# EAGLE library part CS4272 (library balmer)
24-Bit, 192 kHz Stereo Audio CODEC
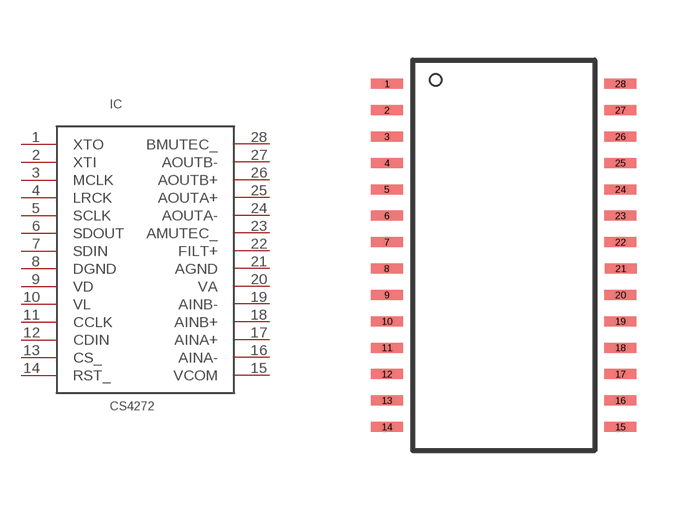
[diagram p21: symbol with the pads of TSSOP28; footprint TSSOP28]

Designator prefix IC

## CS4272  [TSSOP28]
1  XTO
2  XTI
3  MCLK
4  LRCK
5  SCLK
6  SDOUT
7  SDIN
8  DGND
9  VD
10  VL
11  CCLK
12  CDIN
13  CS_
14  RST_
15  VCOM
16  AINA-
17  AINA+
18  AINB+
19  AINB-
20  VA
21  AGND
22  FILT+
23  AMUTEC_
24  AOUTA-
25  AOUTA+
26  AOUTB+
27  AOUTB-
28  BMUTEC_

## Footprint TSSOP28 (pad centres in mm)
smd 0.8 x 0.25: 1 -2.921,4.623; 2 -2.921,3.962; 3 -2.921,3.302; 4 -2.921,2.642; 5 -2.921,1.981; 6 -2.921,1.321; 7 -2.921,0.66; 8 -2.927,0; 9 -2.921,-0.66; 10 -2.921,-1.321; 11 -2.921,-1.981; 12 -2.921,-2.642; 13 -2.921,-3.302; 14 -2.921,-3.962; 15 2.921,-3.962; 16 2.921,-3.302; 17 2.921,-2.642; 18 2.921,-1.981; 19 2.921,-1.321; 20 2.921,-0.66; 21 2.927,0; 22 2.921,0.66; 23 2.921,1.321; 24 2.921,1.981; 25 2.921,2.642; 26 2.921,3.302; 27 2.921,3.962; 28 2.921,4.623